# Altium footprint library LARS_409_R,C,L.PCBLIB: 12 footprints
Each footprint in its own frame and in the unit in brackets; x right, y up, seen from the top. Pads: shape width x height; smd on the part's side, far side on the other; paste and mask are expansions set on the pad; w line width, h text height; cw(c..) or ccw(c..) is an arc to the next point about the centre after c.
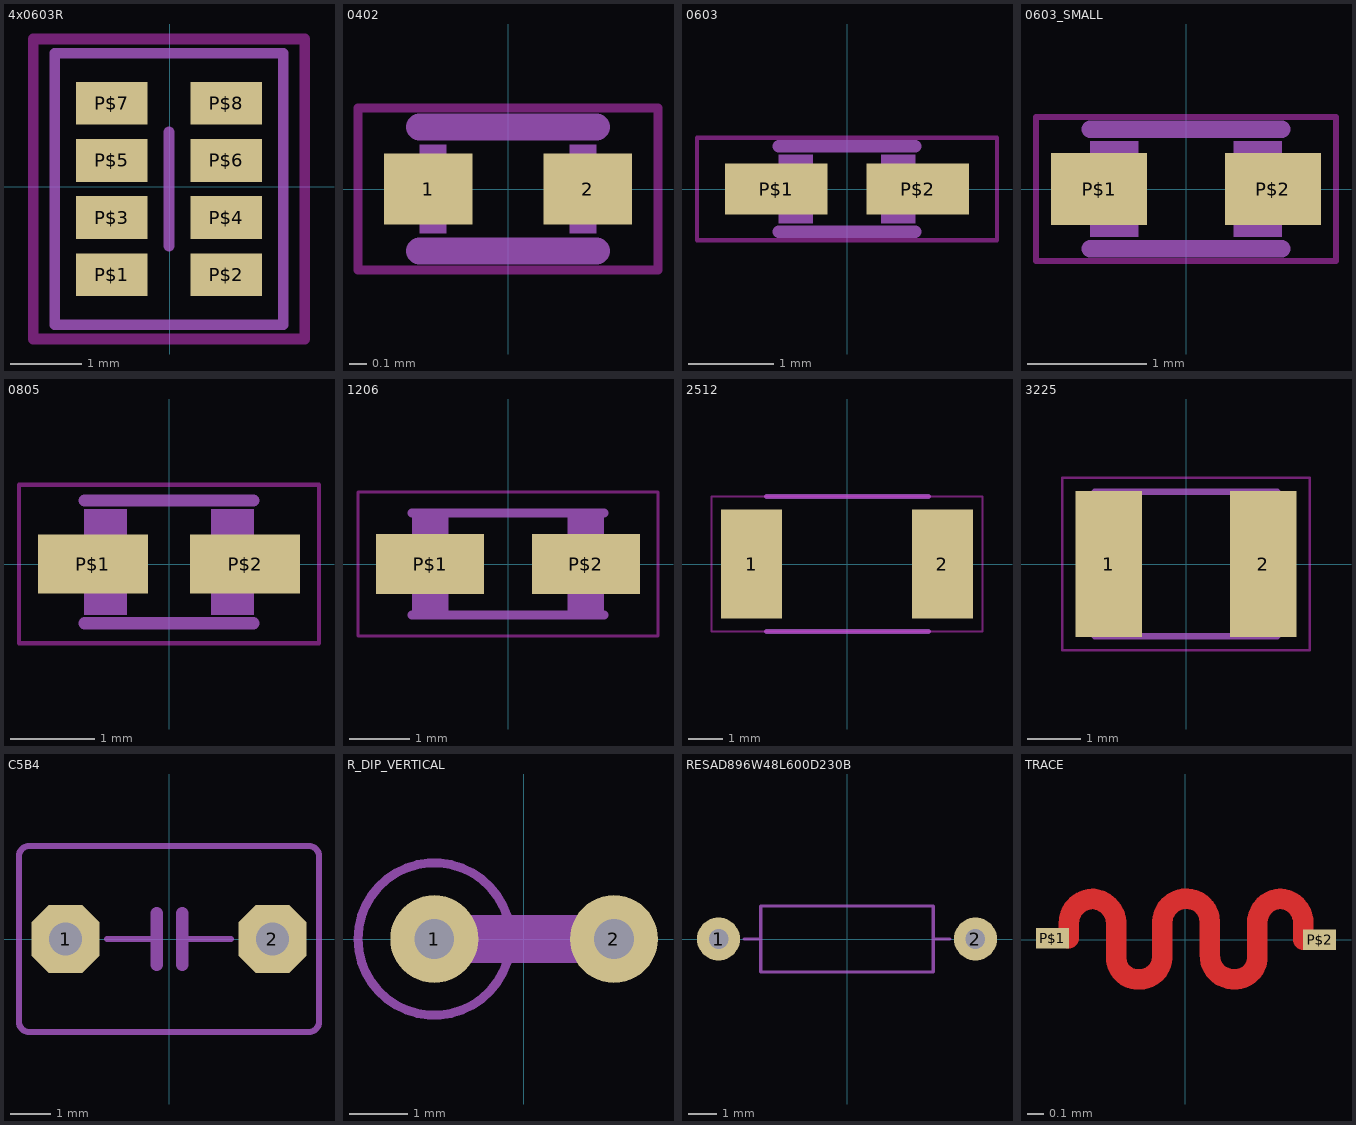
[diagram p0: the footprints below, top view; thin cyan lines are the x and y axes]

## 4х0603R [mm]
pads (8):
  rect 1x0.6 smd: P$1(-0.81,-1.23) P$2(0.79,-1.23) P$3(-0.81,-0.43) P$4(0.79,-0.43) P$5(-0.81,0.37) P$6(0.79,0.37) P$7(-0.81,1.17) P$8(0.79,1.17)
Top keep-out:
  lines w0.152: -1.91,-2.13 -1.91,2.07 1.89,2.07 1.89,-2.13 -1.91,-2.13
tPlace:
  lines w0.152: -0.01,-0.83 -0.01,0.77 ; -1.61,-1.93 1.59,-1.93 1.59,1.87 -1.61,1.87 -1.61,-1.93
3D body "4x0603.STEP": height 0.26, standoff -0.24, extent -0.793,-1.63 0.757,1.57

## 0402 [mm]
pads (2):
  rect 0.5x0.4 smd: 1(-0.45,0) 2(0.45,0)
Top keep-out:
  lines w0.051: -0.848,-0.458 0.848,-0.458 0.848,0.458 -0.848,0.458 -0.848,-0.458
tPlace:
  lines w0.152: -0.5,-0.35 0.5,-0.35 ; -0.5,0.35 0.5,0.35
tGlue:
  region: -0.5,-0.25 -0.5,0.25 -0.35,0.25 -0.35,-0.25
  region: 0.35,-0.25 0.35,0.25 0.5,0.25 0.5,-0.25
3D body "0402.step": height 0.36, standoff 0, extent -0.508,-0.252 0.492,0.25

## 0603 [mm]
pads (2):
  rect 1.2x0.6 smd: P$1(-0.827,0) P$2(0.827,0)
Top keep-out:
  lines w0.05: -1.754,-0.6 -1.754,0.6 1.754,0.6 1.754,-0.6 -1.754,-0.6
tPlace:
  lines w0.145: -0.8,-0.5 0.8,-0.5 ; -0.8,0.5 0.8,0.5
tGlue:
  region: 0.4,-0.4 0.4,0.4 0.8,0.4 0.8,-0.4
  region: -0.8,-0.4 -0.8,0.4 -0.4,0.4 -0.4,-0.4
3D body "0603.step": height 0.48, standoff -0.03, extent -0.798,-0.43 0.802,0.43

## 0603_SMALL [mil]
pads (2):
  rect 31.5x23.62 smd: P$1(-28.62,0) P$2(28.62,0)
Top keep-out:
  lines w1.97: -49.37,-23.62 -49.37,23.62 49.37,23.62 49.37,-23.62 -49.37,-23.62
tPlace:
  lines w5.71: -31.5,-19.69 31.5,-19.69 ; -31.5,19.69 31.5,19.69
tGlue:
  region: 15.75,-15.75 15.75,15.75 31.5,15.75 31.5,-15.75
  region: -31.5,-15.75 -31.5,15.75 -15.75,15.75 -15.75,-15.75
3D body "0603.step": height 18.9, standoff -1.18, extent -31.66,-16.93 31.34,16.93

## 0805 [mm]
pads (2):
  rect 1.3x0.7 smd: P$1(-0.9,0) P$2(0.9,0)
Top keep-out:
  lines w0.05: -1.775,-0.938 -1.775,0.938 1.775,0.938 1.775,-0.938 -1.775,-0.938
tPlace:
  lines w0.145: -1,-0.7 1,-0.7 ; -1,0.75 1,0.75
tGlue:
  region: 0.5,-0.6 0.5,0.65 1,0.65 1,-0.6
  region: -1,-0.6 -1,0.65 -0.5,0.65 -0.5,-0.6
3D body "0805.step": height 0.45, standoff -0.05, extent -1.007,-0.598 0.993,0.652

## 1206 [mm]
pads (2):
  rect 1.8x1 smd: P$1(-1.3,0) P$2(1.3,0)
Top keep-out:
  lines w0.05: -2.5,-1.2 2.5,-1.2 2.5,1.2 -2.5,1.2 -2.5,-1.2
tPlace:
  lines w0.145: -1.6,-0.85 1.6,-0.85 ; -1.6,0.85 1.6,0.85
tGlue:
  region: 1,-0.8 1,0.8 1.6,0.8 1.6,-0.8
  region: -1.6,-0.8 -1.6,0.8 -1,0.8 -1,-0.8
3D body "1206.step": height 0.6, standoff 0, extent -1.595,-0.825 1.605,0.775

## 2512 [mm]
pads (2):
  rect 1.8x3.2 smd: 1(-2.8,0) 2(2.8,0)
Top keep-out:
  lines w0.051: -3.973,-1.983 3.973,-1.983 3.973,1.983 -3.973,1.983 -3.973,-1.983
tDocu:
  region: -3.2,-1.549 -3.2,1.551 -2.351,1.551 -2.351,-1.549
  region: 2.362,-1.549 2.362,1.551 3.212,1.551 3.212,-1.549
tPlace:
  lines w0.152: -2.362,-1.981 2.387,-1.981 ; -2.362,1.981 2.387,1.981
3D body "2512.step": height 0.58, standoff -0.03, extent -3.181,-1.633 3.169,1.627

## 3225 [mm]
pads (2):
  rect 1.24x2.72 smd: 1(-1.44,0) 2(1.44,0)
Top keep-out:
  lines w0.05: -2.308,-1.608 2.308,-1.608 2.308,1.608 -2.308,1.608 -2.308,-1.608
tDocu:
  lines w0.127: -1.7,-1.35 1.7,-1.35 1.7,1.35 -1.7,1.35 -1.7,-1.35
tPlace:
  lines w0.127: -0.5,-1.35 0.5,-1.35 ; -0.5,1.35 0.5,1.35

## C5B4 [mil]
pads (2):
  oct 66x66 / inner round 60.98 / far side oct 66x66 hole 32: 1(-100,0) 2(100,0)
tPlace:
  lines w6: -60,0 -12,0 ; 13,0 60,0 ; -145,-80 ccw(c-135,-80) -135,-90 135,-90 ccw(c135,-80) 145,-80 145,80 ccw(c135,80) 135,90 -135,90 ccw(c-135,80) -145,80 -145,-80
  lines w12: -12,-25 -12,0 -12,25 ; 13,-25 13,0 13,25
3D body "User Library-capacitor-radial.step": height 255, standoff -45, extent -109.63,-46.03 110.37,43.97

## R_DIP_VERTICAL [mm]
pads (2):
  round 1.5 hole 0.68: 1(-1.524,0) 2(1.54,0)
tPlace:
  circle w0.152: c-1.524,0 r1.3
  lines w0.813: -1.54,0 1.603,0

## RESAD896W48L600D230B [mm]
pads (2):
  round 1.5 hole 0.68: 1(-4.48,0) 2(4.48,0)
tDocu:
  lines w0.12: -3,-1.15 -3,1.15 3,1.15 3,-1.15 -3,-1.15
tPlace:
  lines w0.12: -3.586,0 -3,0 ; 3,0 3.586,0 ; -3,-1.15 3,-1.15 3,1.15 -3,1.15 -3,-1.15

## TRACE [mm]
pads (2):
  rect 0.2x0.125 smd paste+0 mask+0: P$1(-0.81,0.01) P$2(0.82,0)
Top:
  lines w0.125: -0.71,0.01 -0.71,0.1 cw(c-0.56,0.1) -0.56,0.25 cw(c-0.575,0.095) -0.42,0.08 -0.42,-0.12 ccw(c-0.29,-0.11) -0.28,-0.24 ccw(c-0.275,-0.105) -0.14,-0.11 -0.14,0.11 cw(c0.005,0.105) 0.01,0.25 cw(c0.01,0.11) 0.15,0.11 0.15,-0.09 ccw(c0.295,-0.095) 0.29,-0.24 ccw(c0.305,-0.105) 0.44,-0.12 0.44,0.1 cw(c0.585,0.105) 0.58,0.25 cw(c0.575,0.105) 0.72,0.1 0.72,0